# Altium schematic symbol library DMP2066LSN.SchLib: 1 symbol
Pins are listed as number, name and electrical type; pins without a type are passive.

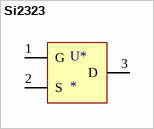
[diagram p0: symbol Si2323]

## Si2323
designator U*
P-MOS SOT23-3
footprint DMP2066LSN (SOT23, 3-Leads, Body 3.0x1.6 mm)
pins: 1 G, 2 S, 3 D